# Altium footprint library fc_components_pcb_lib.PcbLib: 22 footprints (part 1 of 2)
Each footprint in its own frame and in the unit in brackets; x right, y up, seen from the top. Pads: shape width x height; smd on the part's side, far side on the other; paste and mask are expansions set on the pad; w line width, h text height; cw(c..) or ccw(c..) is an arc to the next point about the centre after c.
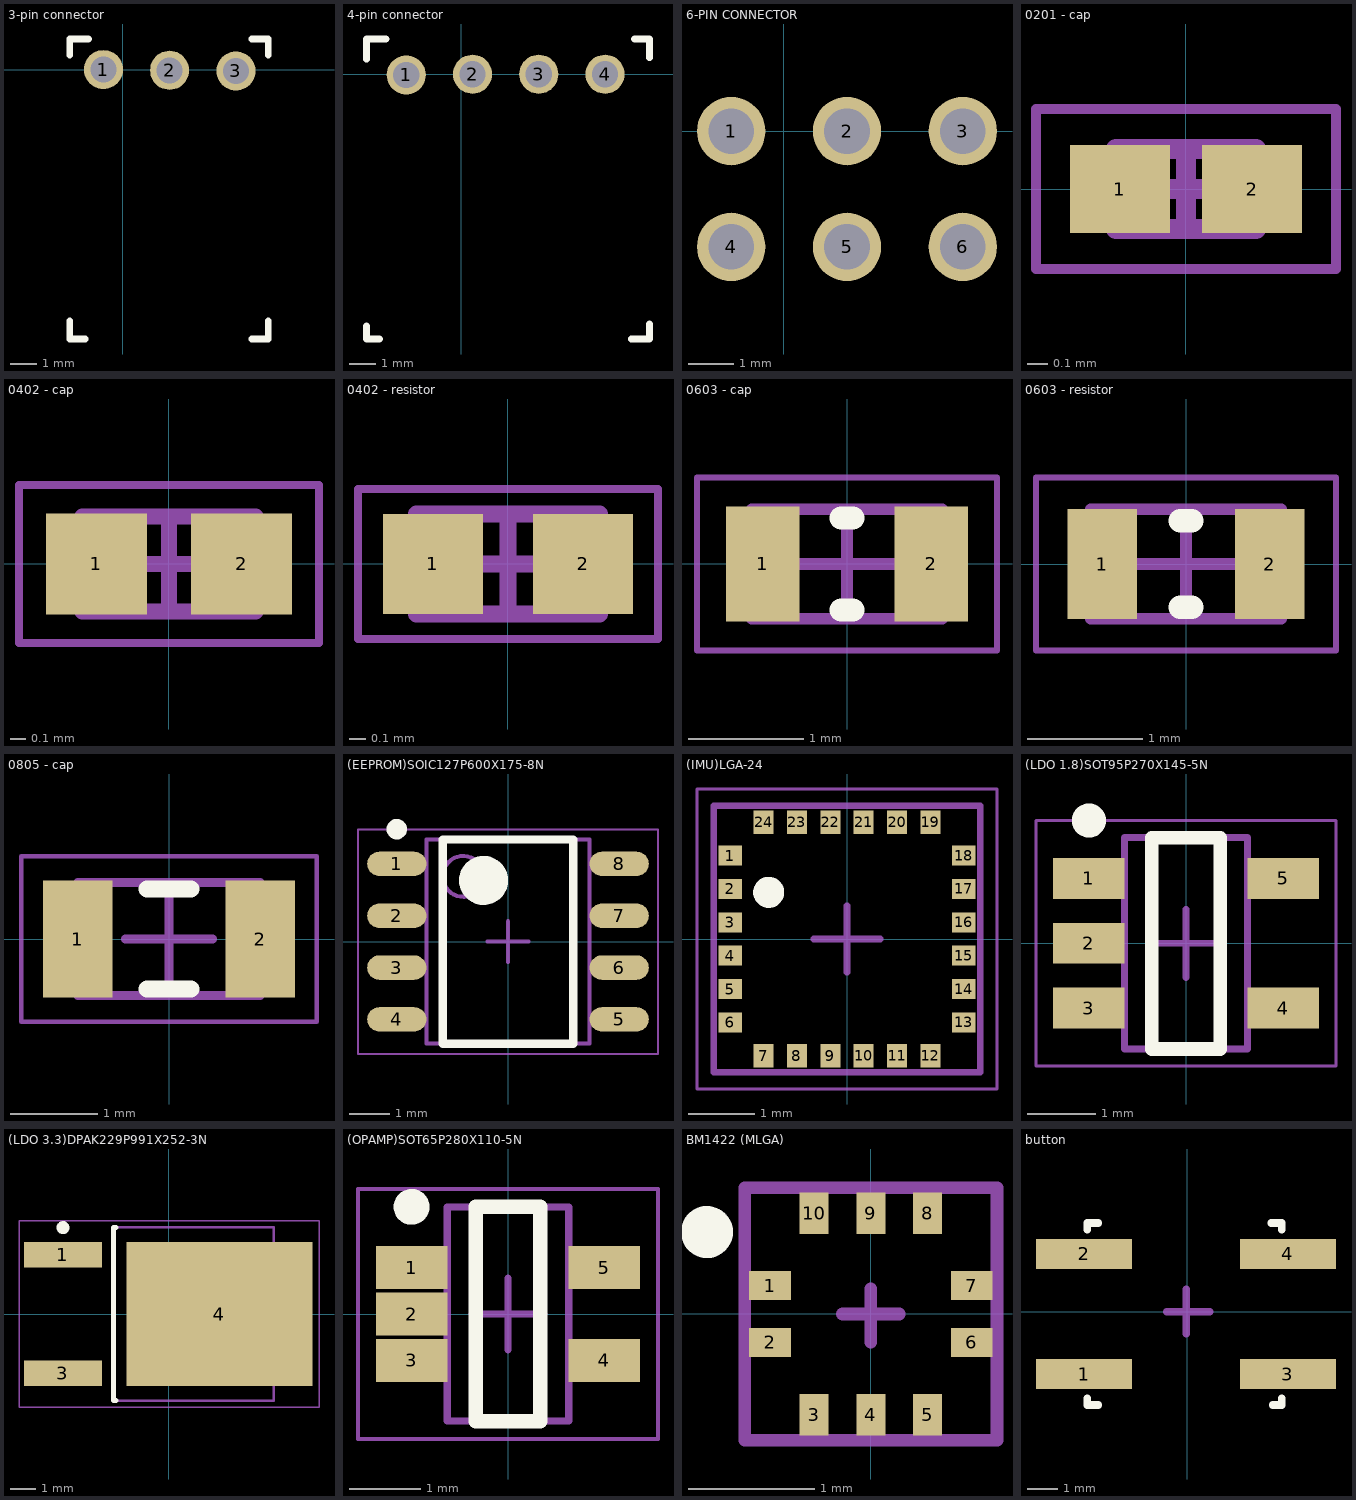
[diagram p0: the footprints below, top view; thin cyan lines are the x and y axes]

## 3-pin connector [mm]
pads (3):
  round 1.5 hole 1: 1(-0.75,0) 2(1.79,-0.025) 3(4.33,-0.05)
Top Overlay:
  lines w0.254: -2.045,-9.62 -2.045,-10.325 -1.45,-10.325 ; -2.045,0.55 -2.045,1.175 -1.32,1.175 ; 4.93,-10.325 5.575,-10.325 5.575,-9.62 ; 4.93,1.175 5.575,1.175 5.575,0.55
3D body: height 3, standoff 0, extent -1.9,-10.2 5.45,-1

## 4-pin connector [mm]
pads (4):
  round 1.5 hole 1: 1(-2.1,-0.025) 2(0.44,0) 3(2.98,0) 4(5.52,0)
Top Overlay:
  lines w0.254: -3.625,-9.65 -3.625,-10.15 -3.125,-10.15 ; -3.625,0.575 -3.625,0.8 -3.625,1.35 -2.875,1.35 ; 6.525,-10.15 7.225,-10.15 7.225,-9.575 ; 6.65,1.35 7.225,1.35 7.225,0.625
3D body: height 0.25, standoff 0, extent -2.625,-4.925 -2.625,-4.925
3D body: height 3, standoff 0, extent -3.475,-10.075 7.1,-0.875

## 6-PIN CONNECTOR [mm]
pads (6):
  round 1.5 hole 1: 1(-1.15,0) 2(1.39,0) 3(3.93,0) 4(-1.15,-2.54) 5(1.39,-2.54) 6(3.93,-2.54)
3D body: height 1.27, standoff 0, extent -1.15,-6.575 -1.15,-6.575
3D body: height 1.27, standoff 0, extent -2.45,-12.712 5.15,-3.737

## 0201 - cap [mm] "Chip Capacitor, 2-Leads, Body 0,60x0,30mm, IPC Medium Density"
height 0.3
pads (2):
  rect 0.5x0.44 smd: 1(-0.33,0) 2(0.33,0)
Mechanical 13:
  lines w0.1: -0.35,-0.2 0.35,-0.2 0.35,0.2 -0.35,0.2 -0.35,-0.2
Mechanical 15:
  lines w0.05: -0.75,-0.4 0.75,-0.4 0.75,0.4 -0.75,0.4 -0.75,-0.4
  lines w0.1: -0.2,0 0.2,0 ; 0,-0.2 0,0.2
3D body: height 0.3, standoff 0, extent 0.22,-0.2 0.35,0.2
3D body: height 0.3, standoff 0, extent -0.35,-0.2 -0.22,0.2
3D body: height 0.3, standoff 0, extent -0.22,-0.2 0.22,0.2

## 0402 - cap [mm] "Chip Capacitor, 2-Leads, Body 1,00x0,50mm, IPC Medium Density"
height 0.4
pads (2):
  rect 0.64x0.64 smd: 1(-0.46,0) 2(0.46,0)
Mechanical 13:
  lines w0.1: -0.55,-0.3 0.55,-0.3 0.55,0.3 -0.55,0.3 -0.55,-0.3
Mechanical 15:
  lines w0.05: -0.95,-0.5 0.95,-0.5 0.95,0.5 -0.95,0.5 -0.95,-0.5
  lines w0.1: -0.3,0 0.3,0 ; 0,-0.3 0,0.3
3D body: height 0.4, standoff 0, extent 0.35,-0.3 0.55,0.3
3D body: height 0.4, standoff 0, extent -0.55,-0.3 -0.35,0.3
3D body: height 0.4, standoff 0, extent -0.35,-0.3 0.35,0.3

## 0402 - resistor [mm] "Chip Resistor, 2-Leads, Body 1,00x0,50mm, IPC Medium Density"
height 0.4
pads (2):
  rect 0.6x0.6 smd mask+0.06: 1(-0.45,0) 2(0.45,0)
Mechanical 13:
  lines w0.1: -0.55,-0.3 -0.55,0.3 0.55,0.3 0.55,-0.3 -0.55,-0.3
Mechanical 15:
  lines w0.05: -0.9,-0.45 -0.9,0.45 0.9,0.45 0.9,-0.45 -0.9,-0.45
  lines w0.1: -0.3,0 0.3,0 ; 0,-0.3 0,0.3
3D body: height 0.4, standoff 0, extent -0.35,-0.3 0.35,0.3
3D body: height 0.4, standoff 0, extent -0.55,-0.3 -0.35,0.3
3D body: height 0.4, standoff 0, extent 0.35,-0.3 0.55,0.3

## 0603 - cap [mm] "Chip Capacitor, 2-Leads, Body 1,55x0,85mm, IPC Medium Density"
height 0.45
pads (2):
  rect 0.64x1 smd: 1(-0.73,0) 2(0.73,0)
Top Overlay:
  lines w0.2: -0.05,-0.4 0.05,-0.4 ; -0.05,0.4 0.05,0.4
Mechanical 13:
  lines w0.1: -0.825,-0.475 -0.825,0.475 0.825,0.475 0.825,-0.475 -0.825,-0.475
Mechanical 15:
  lines w0.05: -1.3,-0.75 -1.3,0.75 1.3,0.75 1.3,-0.75 -1.3,-0.75
  lines w0.1: -0.475,0 0.475,0 ; 0,-0.475 0,0.475
3D body: height 0.45, standoff 0, extent -0.625,-0.475 0.625,0.475
3D body: height 0.45, standoff 0, extent -0.825,-0.475 -0.625,0.475
3D body: height 0.45, standoff 0, extent 0.625,-0.475 0.825,0.475

## 0603 - resistor [mm] "Chip Resistor, 2-Leads, Body 1,55x0,85mm, IPC Medium Density"
height 0.45
pads (2):
  rect 0.6x0.95 smd: 1(-0.725,0) 2(0.725,0)
Top Overlay:
  lines w0.2: -0.05,-0.375 0.05,-0.375 ; -0.05,0.375 0.05,0.375
Mechanical 13:
  lines w0.1: -0.825,-0.475 0.825,-0.475 0.825,0.475 -0.825,0.475 -0.825,-0.475
Mechanical 15:
  lines w0.05: -1.3,-0.75 1.3,-0.75 1.3,0.75 -1.3,0.75 -1.3,-0.75
  lines w0.1: -0.475,0 0.475,0 ; 0,-0.475 0,0.475
3D body: height 0.45, standoff 0, extent 0.625,-0.475 0.825,0.475
3D body: height 0.45, standoff 0, extent -0.825,-0.475 -0.625,0.475
3D body: height 0.45, standoff 0, extent -0.625,-0.475 0.625,0.475

## 0805 - cap [mm] "Chip Capacitor, 2-Leads, Body 2,00x1,20mm, IPC Medium Density"
height 0.3
pads (2):
  rect 0.8x1.35 smd: 1(-1.05,0) 2(1.05,0)
Top Overlay:
  lines w0.2: -0.25,-0.575 0.25,-0.575 ; -0.25,0.575 0.25,0.575
Mechanical 13:
  lines w0.1: -1.05,-0.65 1.05,-0.65 1.05,0.65 -1.05,0.65 -1.05,-0.65
Mechanical 15:
  lines w0.05: -1.7,-0.95 1.7,-0.95 1.7,0.95 -1.7,0.95 -1.7,-0.95
  lines w0.1: -0.5,0 0.5,0 ; 0,-0.5 0,0.5
3D body: height 0.3, standoff 0, extent 0.85,-0.65 1.05,0.65
3D body: height 0.3, standoff 0, extent -1.05,-0.65 -0.85,0.65
3D body: height 0.3, standoff 0, extent -0.85,-0.65 0.85,0.65

## (EEPROM)SOIC127P600X175-8N [mm] "SOIC, 8-Leads, Body 4,90x3,90mm, Pitch 1,27mm, IPC Medium Density"
height 1.75
pads (8):
  oval 1.45x0.6 smd: 1(-2.725,1.905) 2(-2.725,0.635) 3(-2.725,-0.635) 4(-2.725,-1.905) 5(2.725,-1.905) 6(2.725,-0.635) 7(2.725,0.635) 8(2.725,1.905)
Top Overlay:
  circle w0.6: c-0.6,1.5 r0.3
  circle w0.25: c-2.725,2.755 r0.125
  lines w0.2: -1.6,-2.5 1.6,-2.5 1.6,2.5 -1.6,2.5 -1.6,-2.5
Mechanical 13:
  circle w0.1: c-1.1,1.6 r0.5
  lines w0.1: -2,-2.5 2,-2.5 2,2.5 -2,2.5 -2,-2.5
Mechanical 15:
  lines w0.05: -3.675,-2.75 3.675,-2.75 3.675,2.75 -3.675,2.75 -3.675,-2.75
  lines w0.1: -0.5,0 0.5,0 ; 0,-0.5 0,0.5
3D body: height 1.75, standoff 0.1, extent -2,-2.5 2,2.5

## (IMU)LGA-24 [mm] "LGA, 24-Leads, Body 4,00x4,00mmx1,47mm, Pitch 0,50mm"
height 1.47
pads (24):
  rect 0.35x0.3 smd: 1(-1.75,1.25) 2(-1.75,0.75) 3(-1.75,0.25) 4(-1.75,-0.25) 5(-1.75,-0.75) 6(-1.75,-1.25) 13(1.75,-1.25) 14(1.75,-0.75) 15(1.75,-0.25) 16(1.75,0.25) 17(1.75,0.75) 18(1.75,1.25)
  rect 0.3x0.35 smd: 7(-1.25,-1.75) 8(-0.75,-1.75) 9(-0.25,-1.75) 10(0.25,-1.75) 11(0.75,-1.75) 12(1.25,-1.75) 19(1.25,1.75) 20(0.75,1.75) 21(0.25,1.75) 22(-0.25,1.75) 23(-0.75,1.75) 24(-1.25,1.75)
Top Overlay:
  circle w0.254: c-1.175,0.7 r0.106
Mechanical 13:
  lines w0.1: -2,-2 -2,2 2,2 2,-2 -2,-2
Mechanical 15:
  lines w0.05: -2.25,-2.25 -2.25,2.25 2.25,2.25 2.25,-2.25 -2.25,-2.25
  lines w0.1: -0.5,0 0.5,0 ; 0,-0.5 0,0.5
3D body: height 1.47, standoff 0.18, extent -2,-2 2,2

## (LDO 1.8)SOT95P270X145-5N [mm] "SOT23, 5-Leads, Body 2,90x2,70mm, Pitch 0,95mm, IPC Medium Density"
height 1.45
pads (5):
  rect 1.05x0.6 smd mask+0.08: 1(-1.425,0.95) 2(-1.425,0) 3(-1.425,-0.95)
  rect 1.05x0.6 smd: 4(1.425,-0.95) 5(1.425,0.95)
Top Overlay:
  circle w0.25: c-1.425,1.8 r0.125
  lines w0.2: -0.5,-1.55 0.5,-1.55 0.5,1.55 -0.5,1.55 -0.5,-1.55
Mechanical 13:
  lines w0.1: -0.9,-1.55 -0.9,1.55 0.9,1.55 0.9,-1.55 -0.9,-1.55
Mechanical 15:
  lines w0.05: -2.2,-1.8 -2.2,1.8 2.2,1.8 2.2,-1.8 -2.2,-1.8
  lines w0.1: -0.5,0 0.5,0 ; 0,-0.5 0,0.5
3D body: height 1.45, standoff 0, extent -0.9,-1.55 0.9,1.55

## (LDO 3.3)DPAK229P991X252-3N [mm] "D-PAK, 3-Pads, Body 6,20x6,71mm (max), IPC Medium Density"
height 2.52
pads (3):
  rect 3x1 smd: 1(-4.1,2.29) 3(-4.1,-2.29)
  rect 7.2x5.55 smd: 4(1.95,0)
Top Overlay:
  circle w0.25: c-4.1,3.34 r0.125
  lines w0.2: -2.05,-3.35 -2.15,-3.35 -2.15,3.35 -2.05,3.35
Mechanical 13:
  lines w0.1: -2.15,-3.35 -2.15,3.35 4.05,3.35 4.05,-3.35 -2.15,-3.35
Mechanical 15:
  lines w0.05: -5.8,-3.6 -5.8,3.6 5.8,3.6 5.8,-3.6 -5.8,-3.6
  lines w0.1: -0.5,0 0.5,0 ; 0,-0.5 0,0.5
3D body: height 2.52, standoff 0, extent -2.15,-3.35 4.05,3.35

## (OPAMP)SOT65P280X110-5N [mm] "SOT23, 5-Leads, Body 2,90x2,80mm, Pitch 0,65mm, IPC Medium Density"
height 1.1
pads (5):
  rect 1x0.6 smd: 1(-1.35,0.65) 2(-1.35,0) 3(-1.35,-0.65) 4(1.35,-0.65) 5(1.35,0.65)
Top Overlay:
  circle w0.25: c-1.35,1.5 r0.125
  lines w0.2: -0.45,-1.5 0.45,-1.5 0.45,1.5 -0.45,1.5 -0.45,-1.5
Mechanical 13:
  lines w0.1: -0.85,-1.5 -0.85,1.5 0.85,1.5 0.85,-1.5 -0.85,-1.5
Mechanical 15:
  lines w0.05: -2.1,-1.75 -2.1,1.75 2.1,1.75 2.1,-1.75 -2.1,-1.75
  lines w0.1: -0.5,0 0.5,0 ; 0,-0.5 0,0.5
3D body: height 1.1, standoff 0.05, extent -0.85,-1.5 0.85,1.5

## BM1422 (MLGA) [mm]
pads (10):
  rect 0.33x0.23 smd: 1(-0.8,0.225) 2(-0.8,-0.225) 6(0.8,-0.225) 7(0.8,0.225)
  rect 0.23x0.33 smd: 3(-0.45,-0.8) 4(0,-0.8) 5(0.45,-0.8) 8(0.45,0.8) 9(0,0.8) 10(-0.45,0.8)
Top Overlay:
  circle w0.254: c-1.3,0.65 r0.079
Mechanical 15:
  lines w0.1: -0.225,0 0.225,0 ; 0,-0.225 0,0.2 ; -1,-1 -1,1 1,1 1,-1 -1,-1
3D body: height 1, standoff 0, extent -1,-0.987 1,0.988

## button [mm]
pads (4):
  rect 3.2x1 smd: 1(-3.425,-2.075) 2(-3.425,1.925) 3(3.35,-2.075) 4(3.35,1.925)
Top Overlay:
  lines w0.254: -3.325,-2.875 -3.325,-3.1 -2.95,-3.1 ; -3.325,2.725 -3.325,2.95 -2.95,2.95 ; 2.8,2.95 3.15,2.95 3.15,2.725 ; 2.85,-3.1 3.15,-3.1 3.15,-2.875
Mechanical 15:
  lines w0.254: -0.675,0 0.75,0 ; -0.025,-0.725 -0.025,0.75
3D body: height 0.3, standoff 0, extent -3.4,-3.2 3.2,3.025
3D body: height 1.3, standoff 0.3, extent -1.513,-1.534 1.475,1.46